# Altium schematic symbol library qfuse_sch_lib.SchLib: 36 symbols
Pins are listed as number, name and electrical type; pins without a type are passive.

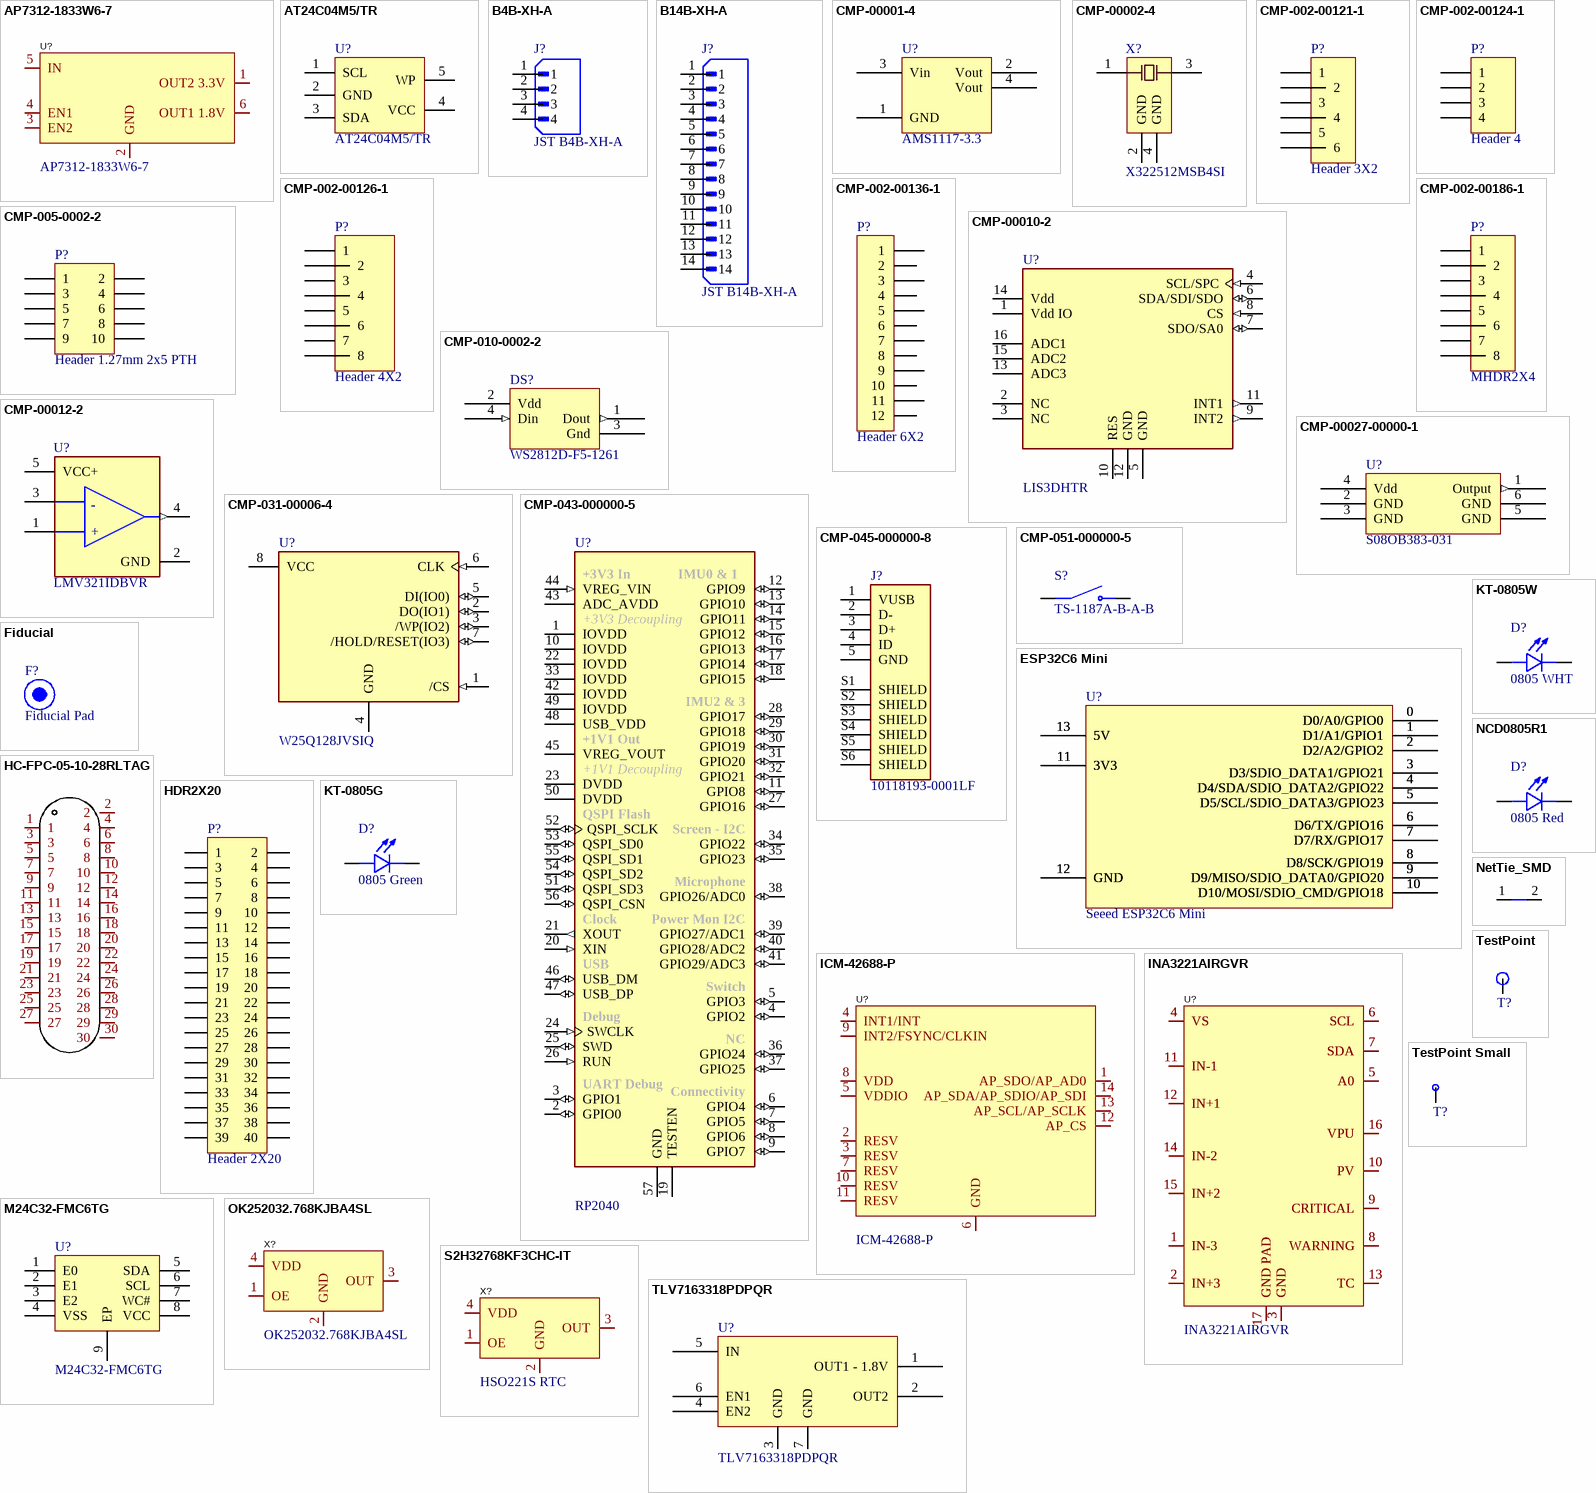
[diagram p0: symbols AP7312-1833W6-7 to TLV7163318PDPQR]

## AP7312-1833W6-7
designator U?
3.3V & 1.8V LDO Regulator - 65dB (1kHz) 150mA Fixed Positive electrode 6V SOT-26 Linear Voltage Regulators (LDO); Manufacturer: DIODES(美台); Add into BOM: yes; Output Voltage: 3.3V；1.8V; Power Supply Rejection Ratio (PSRR): 65dB@(1kHz); Dropout Voltage: 200mV@(150mA)；300mV@(150mA); standby current: 80uA; Number of Outputs: 2; Symbol: AP7312-1833W6-7; Device: AP7312-1833W6-7; LCSC Part Name: 输入6V 输出1.8V~1.8V 3.3V 150mA; Supplier Part: C195066; Manufacturer Part: AP7312-1833W6-7; Supplier Footprint: SOT-26; JLCPCB Part Class: Extended Part; Datasheet: https://atta.szlcsc.com/upload/public/pdf/source/20191127/C460370_4EA078F5DD2838167324CDCB5F172A36.pdf; Supplier: LCSC; Convert to PCB: yes; Maximum Input Voltage: 6V; MAX Output Current: 150mA; Operating Temperature: -40℃~+85℃; Output Polarity: Positive electrode; LCSC Part #: C195066; JLCPCB Part #: C195066
footprint SOT-26_L3.0-W1.6-P0.95-LS2.8-BL
pins: 1 OUT2 3.3V, 2 GND, 3 EN2, 4 EN1, 5 IN, 6 OUT1 1.8V

## AT24C04M5/TR
designator U?
4Kbit SOT-23-5 EEPROM ROHS - AT24C04M5/TR - HGSEMI - SOT-23-5; JLCPCB Part Number: C7432379
footprint AT24C04M5/TR
pins: 1 SCL, 2 GND, 3 SDA, 4 VCC, 5 WP

## B4B-XH-A
designator J?, comment JST B4B-XH-A  (no BOM)
JST 4 Pin Single Row Header | Top Facing | AWG 22-30 | 3A 250VAC | 10-20mOhm contact impedance | Connector Header Through Hole 4 position 0.098 (2.50mm); MF: JST Sales; MP: B4B-XH-A(LF)(SN); SnapEDA_Link: https://www.snapeda.com/parts/B4B-XH-A(LF)(SN)/JST+Sales+America+Inc./view-part/?ref=snap; Package: None; Value: *; Check_prices: https://www.snapeda.com/parts/B4B-XH-A(LF)(SN)/JST+Sales+America+Inc./view-part/?ref=eda
footprint JST_B4B-XH-A (JST 4 Pin Single Row Header)
pins: 1, 2, 3, 4

## B14B-XH-A
designator J?, comment JST B14B-XH-A  (no BOM)
jST 14 Pin Single Row Header | Top Facing | AWG 22-30 | 3A 250VAC | 10-20mOhm contact impedance; MF: {'manufacturer': u'JST Sales America Inc.'}; Package: None; Price: None; Value: *; MP: B14B-XH-A; Availability: Unavailable
footprint JST_B14B-XH-A (JST 14 Pin Single Row Header)
pins: 1, 2, 3, 4, 5, 6, 7, 8, 9, 10, 11, 12, 13, 14

## CMP-00001-4
designator U?, comment AMS1117-3.3
3.3V 1A LOW DROPOUT VOLTAGE REGULATOR SOT-223; Dropout voltage: 1.3 V; JLCPCB Part: C6186; Output current: 1 A; Output voltage: 3.3 V
footprint SOT230P700X180-4N (SOT223, 4-Leads, Body 6.51x7.00mm (avg), Pitch 2.30mm, IPC Medium Density)
pins: 1 GND (power), 2 Vout (power), 3 Vin (power), 4 Vout (power)

## CMP-00002-4
designator X?, comment X322512MSB4SI
12MHz SMD Crystal Resonator 20pF ±10ppm ±30ppm -40℃~+85℃ SMD3225-4P  Crystals ROHS Yangxing Tech; Max ESR: 80 Ω; Frequency: 12 MHz; Load capacitance: 20 pF; JLCPCB Part Number: C9002
footprint X322512MSB4SI-Footprint-1
pins: 1 OSC1, 2 GND, 3 OSC2, 4 GND

## CMP-002-00121-1
designator P?, comment Header 3X2  (no BOM)
Header, 3-Pin, Dual row; Signal Integrity: Connector; Source: Miscellaneous Connectors.SchLib; LatestRevisionDate: 17-Jul-2002; Publisher: Altium Limited; LatestRevisionNote: Re-released for DXP Platform.; Design Item ID: Header 3X2; Pin Count: 6; Component Type: Standard
footprint HDR2X3H (Connector; Header; 3x2 Position; Right Angle)
signal-integrity model Connector
footprint HDR2X3 (Connector; Header; 3x2 Position)
pins: 1, 2, 3, 4, 5, 6

## CMP-002-00124-1
designator P?, comment Header 4  (no BOM)
Header, 4-Pin; Signal Integrity: Connector; LatestRevisionNote: Re-released for DXP Platform.; Component Type: Standard; Design Item ID: Header 4; Source: Miscellaneous Connectors.SchLib; Pin Count: 4; Publisher: Altium Limited; LatestRevisionDate: 17-Jul-2002
signal-integrity model Connector
footprint HDR1X4 (Connector; Header; 4 Position)
pins: 1, 2, 3, 4

## CMP-002-00126-1
designator P?, comment Header 4X2  (no BOM)
Header, 4-Pin, Dual row; Signal Integrity: Connector; Publisher: Altium Limited; Source: Miscellaneous Connectors.SchLib; LatestRevisionNote: Re-released for DXP Platform.; Pin Count: 8; LatestRevisionDate: 17-Jul-2002; Design Item ID: Header 4X2; Component Type: Standard
signal-integrity model Connector
footprint HDR2X4 (Connector; Header; 4x2 Position)
pins: 1, 2, 3, 4, 5, 6, 7, 8

## CMP-002-00136-1
designator P?, comment Header 6X2  (no BOM)
Header, 6-Pin, Dual row; Signal Integrity: Connector; Component Type: Standard; LatestRevisionNote: Re-released for DXP Platform.; Publisher: Altium Limited; Design Item ID: Header 6X2; LatestRevisionDate: 17-Jul-2002; Pin Count: 12; Source: Miscellaneous Connectors.SchLib
signal-integrity model Connector
footprint HDR2X6 (Connector; Header; 6x2 Position)
pins: 1, 2, 3, 4, 5, 6, 7, 8, 9, 10, 11, 12

## CMP-002-00186-1
designator P?, comment MHDR2X4  (no BOM)
Header, 4-Pin, Dual row; Signal Integrity: Connector; Design Item ID: MHDR2X4; Source: Miscellaneous Connectors.SchLib; LatestRevisionDate: 17-Jul-2002; Publisher: Altium Limited; Component Type: Standard; LatestRevisionNote: Re-released for DXP Platform.; Pin Count: 8
signal-integrity model Connector
footprint MHDR2X4 (Connector; Header; 4x2 Position)
pins: 1, 2, 3, 4, 5, 6, 7, 8

## CMP-005-0002-2
designator P?, comment Header 1.27mm 2x5 PTH  (no BOM)
Header 1.27mm pitch, 2x5, PTH through hole; Pins: 10; element14 Item: 1577743; Design Item ID: Header 1.27mm 2x5 PTH; Source: JCULibrary.SchLib; Component Type: Standard
footprint Header 1.27mm 2x5 PTH (Header 1.27mm pitch, 2x5, PTH through hole)
pins: 1, 2, 3, 4, 5, 6, 7, 8, 9, 10

## CMP-00010-2
designator U?, comment LIS3DHTR
ACCEL 2-16G I2C/SPI 16LGA; Interface: I2C; Max Supply Voltage: 3.6V; Axis: X, Y, Z; Operating Supply Voltage: 2.5V; Bandwidth: 5kHz; Resolution: 16b; Operating Supply Current: 11uA; Sensor Type: 3 Axis; Min Supply Voltage: 1.71V; Output Type: Digital; Series: -; Number of Pins: 16; Radiation Hardening: No; Package Quantity: 1; Case/Package: LGA; Contact Plating: Gold; Min Operating Temperature: -40°C; REACH SVHC: No SVHC; RoHS Compliant: Yes; Lead Free: Lead Free; Min Supply Voltage (DC): 1.71V; Length: 3mm; JLCPCB Part: C15134; Height: 1mm; Max Supply Voltage (DC): 3.6V; Width: 3mm; Max Operating Temperature: 85°C; Depth: 3mm; Packaging: Tape and Reel
footprint FP-LGA-16-7983231-MFG
pins: 1 Vdd IO (power), 2 NC, 3 NC, 4 SCL/SPC (in), 5 GND (power), 6 SDA/SDI/SDO (io), 7 SDO/SA0 (io), 8 CS (in), 9 INT2 (out), 10 RES, 11 INT1 (out), 12 GND (power), 13 ADC3, 14 Vdd (power), 15 ADC2, 16 ADC1

## CMP-010-0002-2
designator DS?, comment WS2812D-F5-1261
Through-hole addressable RGB LED, 5mm
footprint WS2812D-F5-1261-Footprint-1
pins: 1 Dout (out), 2 Vdd (power), 3 Gnd (power), 4 Din (in)

## CMP-00012-2
designator U?, comment LMV321IDBVR
General Purpose Amplifier 1 Circuit Rail-to-Rail SOT-23-5; Input Offset Voltage (Vos): 7mV; Number of Amplifiers: 1; Input Bias Current: 250nA; Max Supply Voltage: 5.5V; Min Supply Voltage: 2.7V; Voltage Gain: 100dB; Supply Current: 250uA; Operating Supply Current: 130uA; Output Current: 160mA; Power Supply Rejection Ratio (PSRR): 50dB; Unity Gain Bandwidth Product: 1MHz; Slew Rate: 1V/µs; Radiation Hardening: No; Case/Package: SOT-23-5; Amplifier Type: GENERAL PURPOSE; Contact Plating: Tin,Matte; Packaging: Tape and Reel; Number of Circuits: 1; Nominal Supply Current: 250uA; Mount: Surface Mount; Technology: BICMOS; Series: -; REACH SVHC: No SVHC; Output Current per Channel: 160mA; Max Operating Temperature: 125°C; Number of Elements: 1; Number of Channels: 1; Number of Pins: 5; Lead Free: Lead Free; Bandwidth: 1MHz; Gain Bandwidth Product: 1MHz; RoHS Compliant: Yes; Min Operating Temperature: -40°C; Common Mode Rejection Ratio: 50dB; Package Quantity: 1; JLCPCB Part Number: C7972
footprint FP-DBV0005A-MFG
pins: 1 1IN+ (hiz), 2 GND (power), 3 1IN- (hiz), 4 OUT (out), 5 VCC+ (power)
text: +

## CMP-00027-00000-1
designator U?, comment S08OB383-031
MEMS Microphone SMD 3.76x3x1.1mm; JLCPCB Part Number: C233789
footprint Goertek_S08OB381-026 (Goertek S08OB381-026 SMD package)
pins: 1 Output (out), 2 GND (power), 3 GND (power), 4 Vdd (power), 5 GND (power), 6 GND (power)

## CMP-031-00006-4
designator U?, comment W25Q128JVSIQ
FLASH - NOR Memory IC 128Mb (16M x 8) SPI - Quad I/O, QPI, DTR 133 MHz 8-SOIC; MF: Winbond Electronics; Pin Count: 8; Check_prices: https://www.snapeda.com/parts/W25Q128JVSIQ/Winbond+Electronics/view-part/?ref=eda; Package: SOIC-8 Winbond; MP: W25Q128JVSIQ; Component Type: Standard; Source: W25Q128JVSIQ.SchLib; Design Item ID: W25Q128JVSIQ; Purchase-URL: https://pricing.snapeda.com/search/part/W25Q128JVSIQ/?ref=eda; Price: None; Availability: In Stock; SnapEDA_Link: https://www.snapeda.com/parts/W25Q128JVSIQ/Winbond+Electronics/view-part/?ref=snap; Value: *; JLCPCB Part Number: C97521
footprint SOIC127P790X216-8N
pins: 1 /CS (in), 2 DO(IO1) (io), 3 /WP(IO2) (io), 4 GND (power), 5 DI(IO0) (io), 6 CLK (in), 7 /HOLD/RESET(IO3) (io), 8 VCC (power)

## CMP-043-000000-5
designator U?, comment RP2040
ARM Cortex-M0+ MCU 32-Bit Microcontroller for Raspberry Pi Pico; Package: None; Price: None; Availability: Available; Design Item ID: RP2040; Component Type: Standard; Pin Count: 57; Source: RP2040.SchLib; Value: *; MP: RP2040; JLCPCB Part Number: C2040
footprint QFN40P700X700X90-57N
pins: 1 IOVDD (power), 2 GPIO0 (io), 3 GPIO1 (io), 4 GPIO2 (io), 5 GPIO3 (io), 6 GPIO4 (io), 7 GPIO5 (io), 8 GPIO6 (io), 9 GPIO7 (io), 10 IOVDD (power), 11 GPIO8 (io), 12 GPIO9 (io), 13 GPIO10 (io), 14 GPIO11 (io), 15 GPIO12 (io), 16 GPIO13 (io), 17 GPIO14 (io), 18 GPIO15 (io), 19 TESTEN, 20 XIN (in), 21 XOUT (out), 22 IOVDD (power), 23 DVDD (power), 24 SWCLK (in), 25 SWD (io), 26 RUN (in), 27 GPIO16 (io), 28 GPIO17 (io), 29 GPIO18 (io), 30 GPIO19 (io), 31 GPIO20 (io), 32 GPIO21 (io), 33 IOVDD (power), 34 GPIO22 (io), 35 GPIO23 (io), 36 GPIO24 (io), 37 GPIO25 (io), 38 GPIO26/ADC0 (io), 39 GPIO27/ADC1 (io), 40 GPIO28/ADC2 (io), 41 GPIO29/ADC3 (io), 42 IOVDD (power), 43 ADC_AVDD (power), 44 VREG_VIN (in), 45 VREG_VOUT (power), 46 USB_DM (io), 47 USB_DP (io), 48 USB_VDD (power), 49 IOVDD (power), 50 DVDD (power), 51 QSPI_SD3 (io), 52 QSPI_SCLK (io), 53 QSPI_SD0 (io), 54 QSPI_SD2 (io), 55 QSPI_SD1 (io), 56 QSPI_CSN (io), 57 GND (power)
text: +3V3 In; IMU0 & 1; +3V3 Decoupling; IMU2 & 3; +1V1 Out; +1V1 Decoupling; QSPI Flash; Screen - I2C; Microphone; Clock; Power Mon I2C; USB; Switch; Debug; NC; UART Debug; Connectivity

## CMP-045-000000-8
designator J?, comment 10118193-0001LF
USB - micro B USB 2.0 Receptacle Connector 5 Position Surface Mount, Right Angle; Through Hole; MF: Amphenol ICC; MP: 10118193-0001LF; Component Type: Standard; Design Item ID: 10118193-0001LF; Pin Count: 11; Package: None; Source: SnapEDAsch.SchLib; SnapEDA_Link: https://www.snapeda.com/parts/10118193-0001LF/Amphenol%20FCI/view-part/2758989/?ref=snap; JLCPCB Part Number: C132562
footprint FCI_10118193-0001LF
pins: 1 VUSB, 2 D-, 3 D+, 4 ID, 5 GND, S1 SHIELD, S2 SHIELD, S3 SHIELD, S4 SHIELD, S5 SHIELD, S6 SHIELD

## CMP-051-000000-5
designator S?, comment TS-1187A-B-A-B
SPST 50mA @ 12VDC Top Actuated Round Button 160gf SMD Tactile Switches RoHS; Value: *; Pin Count: 4; MP: TS-1187A-B-A-B; Price: None; Availability: Unavailable; Design Item ID: TS-1187A-B-A-B; Package: None; Component Type: Standard; Source: TS-1187A-B-A-B.SchLib; JLCPCB Part Number: C318884
footprint SW_TS-1187A-B-A-B
pins: A COM, B COM, C NO, D NO

## ESP32C6 Mini
designator U?, comment Seeed ESP32C6 Mini  (no BOM)
footprint ESP32C6 Mini
pins: 0 D0/A0/GPIO0, 0 D0/A0/GPIO0, 0 D0/A0/GPIO0, 0 D0/A0/GPIO0, 1 D1/A1/GPIO1, 1 D1/A1/GPIO1, 1 D1/A1/GPIO1, 1 D1/A1/GPIO1, 2 D2/A2/GPIO2, 2 D2/A2/GPIO2, 2 D2/A2/GPIO2, 2 D2/A2/GPIO2, 3 D3/SDIO_DATA1/GPIO21, 3 D3/SDIO_DATA1/GPIO21, 3 D3/SDIO_DATA1/GPIO21, 3 D3/SDIO_DATA1/GPIO21, 4 D4/SDA/SDIO_DATA2/GPIO22, 4 D4/SDA/SDIO_DATA2/GPIO22, 4 D4/SDA/SDIO_DATA2/GPIO22, 4 D4/SDA/SDIO_DATA2/GPIO22, 5 D5/SCL/SDIO_DATA3/GPIO23, 5 D5/SCL/SDIO_DATA3/GPIO23, 5 D5/SCL/SDIO_DATA3/GPIO23, 5 D5/SCL/SDIO_DATA3/GPIO23, 6 D6/TX/GPIO16, 6 D6/TX/GPIO16, 6 D6/TX/GPIO16, 6 D6/TX/GPIO16, 7 D7/RX/GPIO17, 7 D7/RX/GPIO17, 7 D7/RX/GPIO17, 7 D7/RX/GPIO17, 8 D8/SCK/GPIO19, 8 D8/SCK/GPIO19, 8 D8/SCK/GPIO19, 8 D8/SCK/GPIO19, 9 D9/MISO/SDIO_DATA0/GPIO20, 9 D9/MISO/SDIO_DATA0/GPIO20, 9 D9/MISO/SDIO_DATA0/GPIO20, 9 D9/MISO/SDIO_DATA0/GPIO20, 10 D10/MOSI/SDIO_CMD/GPIO18, 10 D10/MOSI/SDIO_CMD/GPIO18, 10 D10/MOSI/SDIO_CMD/GPIO18, 10 D10/MOSI/SDIO_CMD/GPIO18, 11 3V3, 11 3V3, 11 3V3, 11 3V3, 12 GND, 12 GND, 12 GND, 12 GND, 13 5V, 13 5V, 13 5V, 13 5V

## Fiducial
designator F?, comment Fiducial Pad  (no BOM)
1x2mm Fiducial Pad
footprint Fiducial

## HC-FPC-05-10-28RLTAG
designator FPC?  (value not drawn)
Manufacturer: HCTL(华灿天禄); Add into BOM: yes; Locking Feature: Clamshell; Number of Contacts: 28P; Pitch: 0.5mm; FFC, FCB Thickness: 0.3mm; Symbol: HC-FPC-05-10-28RLTAG; Device: HC-FPC-05-10-28RLTAG; LCSC Part Name: 翻盖式 下接 P数:28P 间距:0.5mm; Supplier Part: C5213741; Manufacturer Part: HC-FPC-05-10-28RLTAG; Supplier Footprint: SMD,P=0.5mm,卧贴; JLCPCB Part Class: Extended Part; Datasheet: https://atta.szlcsc.com/upload/public/pdf/source/20221027/B2DE489DA152049D1F105170189CFB4E.pdf; Supplier: LCSC; Convert to PCB: yes; Contact Type: Bottom Contact; Mounting Type: 卧贴; Height Above Board: 1mm; Contact Material: Copper Alloy; Operating Temperature Range: -55℃~+85℃
footprint FPC-SMD_28P-P0.50_HCTL_HC-FPC-05-10-28RLTAG
pins: 1, 2, 3, 4, 5, 6, 7, 8, 9, 10, 11, 12, 13, 14, 15, 16, 17, 18, 19, 20, 21, 22, 23, 24, 25, 26, 27, 28, 29, 30

## HDR2X20
designator P?, comment Header 2X20  (no BOM)
Header, 20-Pin, Dual row, 2.54mm Pin Pitch; Signal Integrity: Connector; LatestRevisionNote: Re-released for DXP Platform.; Publisher: Altium Limited; Pin Count: 40; Source: Miscellaneous Connectors.SchLib; Design Item ID: Header 20X2; Component Type: Standard; LatestRevisionDate: 17-Jul-2002
signal-integrity model Connector
footprint HDR2X20 (Connector; Header; 20x2 Position)
pins: 1, 2, 3, 4, 5, 6, 7, 8, 9, 10, 11, 12, 13, 14, 15, 16, 17, 18, 19, 20, 21, 22, 23, 24, 25, 26, 27, 28, 29, 30, 31, 32, 33, 34, 35, 36, 37, 38, 39, 40

## ICM-42688-P
designator U?
ICM-42688-P LGA-14(2.5x3) Attitude Sensor/Gyroscope; Manufacturer: TDK InvenSense(应美盛); Add into BOM: yes; Sensor Type: 加速度计陀螺仪; LCSC Part Name: ICM-42688-P; Manufacturer Part: ICM-42688-P; Supplier Footprint: LGA-14(2.5x3); JLCPCB Part Class: Extended Part; Datasheet: https://atta.szlcsc.com/upload/public/pdf/source/20210703/CF24204867ACE5B754A2B035F23E5931.pdf; Supplier: LCSC; Convert to PCB: yes; Device: ICM-42688-P; Symbol: ICM-42688-P; LCSC Part #: C1850418; JLCPCB Part #: C1850418; JLCPCB Part Number: C1850418
footprint LGA-14_L3.0-W2.5-P0.50-TL
pins: 1 AP_SDO/AP_AD0, 2 RESV, 3 RESV, 4 INT1/INT, 5 VDDIO, 6 GND, 7 RESV, 8 VDD, 9 INT2/FSYNC/CLKIN, 10 RESV, 11 RESV, 12 AP_CS, 13 AP_SCL/AP_SCLK, 14 AP_SDA/AP_SDIO/AP_SDI

## INA3221AIRGVR
designator U?
Texas Instruments INA3221AIRGVR - QFN-16-EP(4x4) Current Sense Amplifiers ROHS; Manufacturer: TI(德州仪器); Add into BOM: yes; Symbol: INA3221AIRGVR; Device: INA3221AIRGVR; LCSC Part Name: INA3221AIRGVR; Manufacturer Part: INA3221AIRGVR; Supplier Footprint: QFN-16-EP(4x4); JLCPCB Part Class: Extended Part; Datasheet: https://www.ti.com/cn/lit/gpn/ina3221; Supplier: LCSC; Convert to PCB: yes; JLCPCB Part Number: C181255
footprint QFN-16_L4.0-W4.0-P0.65-TL-EP2.2
pins: 1 IN-3, 1 IN-3, 2 IN+3, 2 IN+3, 3 GND, 3 GND, 4 VS, 4 VS, 5 A0, 5 A0, 6 SCL, 6 SCL, 7 SDA, 7 SDA, 8 WARNING, 8 WARNING, 9 CRITICAL, 9 CRITICAL, 10 PV, 10 PV, 11 IN-1, 11 IN-1, 12 IN+1, 12 IN+1, 13 TC, 13 TC, 14 IN-2, 14 IN-2, 15 IN+2, 15 IN+2, 16 VPU, 16 VPU, 17 GND PAD, 17 GND PAD

## KT-0805G
designator D?, comment 0805 Green
0805 Green LED | 20mA | Vf = 2.5-3.0V; MF: Hubei KENTO Elec; MP: KT-0805W; SnapEDA_Link: https://www.snapeda.com/parts/KT-0805W/Hubei+KENTO+Elec/view-part/?ref=snap; Package: 0805; LCSC Part #: C2297; JLCPCB Part #: C2297; JLCPCB Part Number: C2297
footprint LED_KT-0805W
pins: A, C

## KT-0805W
designator D?, comment 0805 WHT
0805 WHT LED | 25mA | Vf = 2.6-3.2V - 0805 Light Emitting Diodes (LED) ROHS; MF: Hubei KENTO Elec; MP: KT-0805W; SnapEDA_Link: https://www.snapeda.com/parts/KT-0805W/Hubei+KENTO+Elec/view-part/?ref=snap; Package: 0805; LCSC Part #: C34499; JLCPCB Part #: C34499; JLCPCB Part Number: C34499
footprint LED_KT-0805G
pins: A, C

## M24C32-FMC6TG
designator U?
STMicroelectronics M24C32-FMC6TG - UFDFPN-8(2x3) - 32Kbit I2C UFDFPN-8(2x3) EEPROM ROHS; JLCPCB Part Number: C2060985
footprint M24C32-FMC6TG
pins: 1 E0, 2 E1, 3 E2, 4 VSS, 5 SDA, 6 SCL, 7 WC#, 8 VCC, 9 EP

## NCD0805R1
designator D?, comment 0805 Red
0805 Red LED | 25mA | Vf = 1.6-2.6V - 20mA 67mcd~195mcd -30℃~+85℃ 615nm~630nm Red 130° 65mW 1.6V~2.6V 0805 Light Emitting Diodes (LED) ROHS; MF: Foshan NationStar Optoelectronics; MP: NCD0805R1; Package: 0805; Check_prices: https://www.snapeda.com/parts/KT-0805W/Hubei+KENTO+Elec/view-part/?ref=eda; LCSC Part #: C84256; JLCPCB Part #: C84256; JLCPCB Part Number: C84256
footprint NCD0805R1
pins: A, C

## NetTie_SMD
designator NT?, comment NT  (value not drawn)  (net tie, no BOM)
Net Tie for SMD
footprint NetTie_SMD
pins: 1, 2

## OK252032.768KJBA4SL
designator X?
YXC Crystal Oscillators - OK252032.768KJBA4SL - SMD2520-4P - 1.8V~3.3V ±10ppm 5mA ±20ppm CMOS 32.768kHz SMD2520-4P Crystal Oscillators ROHS; Manufacturer: HELE(台湾加高); Add into BOM: yes; Supply Voltage: 3.3V; Supply Current (Max): 3mA; Frequency Stability(Full temperature range): ±30ppm; Symbol: OK252032.768KJBA4SL; Device: OK252032.768KJBA4SL; LCSC Part Name: OK252032.768KJBA4SL; Supplier Part: C669098; Manufacturer Part: OK252032.768KJBA4SL; Supplier Footprint: SMD2520-4P; JLCPCB Part Class: Extended Part; Datasheet: https://atta.szlcsc.com/upload/public/pdf/source/20190430/C253914_C770A64EFF6E6E62846100D666617C6C.pdf; Supplier: LCSC; Convert to PCB: yes; Value: 32.768kHz; Operating Temperature: -30℃~+85℃; LCSC Part #: C669098; JLCPCB Part Number: C669098
footprint OSC-SMD_4P-L2.5-W2.0-BL
pins: 1 OE, 2 GND, 3 OUT, 4 VDD

## S2H32768KF3CHC-IT
designator X?, comment HSO221S RTC
HSO221S RTC - 3.3V 3mA ±30ppm 32.768kHz SMD2520-4P Oscillators ROHS; Manufacturer: HELE(台湾加高); Symbol: S2H32768KF3CHC-IT; Add into BOM: yes; Device: S2H32768KF3CHC-IT; LCSC Part Name: S2H32768KF3CHC-IT; Supplier Part: C253914; Manufacturer Part: S2H32768KF3CHC-IT; Supplier Footprint: SMD2520-4P; JLCPCB Part Class: Extended Part; Datasheet: https://atta.szlcsc.com/upload/public/pdf/source/20190430/C253914_C770A64EFF6E6E62846100D666617C6C.pdf; Supplier: LCSC; Convert to PCB: yes; Value: 32.768kHz; Supply Voltage: 3.3V; Supply Current (Max): 3mA; Frequency Stability(Full temperature range): ±30ppm; Operating Temperature: -30℃~+85℃; LCSC Part #: C253914; JLCPCB Part #: C253914
footprint OSC-SMD_4P-L2.5-W2.0-BL
pins: 1 OE, 2 GND, 3 OUT, 4 VDD

## TestPoint
designator T?, comment TP  (value not drawn)  (no BOM)
footprint TestPoint
pins: 1 TP

## TestPoint Small
designator T?, comment TP  (value not drawn)  (no BOM)
footprint TestPoint - Small
pins: 1 TP

## TLV7163318PDPQR
designator U?
Texas Instruments - TLV7163318PDPQR / 150mA Fixed Positive electrode 5.5V X2SON-6(1.2x1.2) Voltage Regulators - Linear, Low Drop Out (LDO) Regulators ROHS; JLCPCB Part Number: C2859836
footprint XDFN-6_L1.2-W1.2-P0.40-BL-EP
pins: 1 OUT1 - 1.8V, 2 OUT2, 3 GND, 4 EN2, 5 IN, 6 EN1, 7 GND